# Altium schematic symbol library RF Module.SchLib: 8 symbols
Pins are listed as number, name and electrical type; pins without a type are passive.

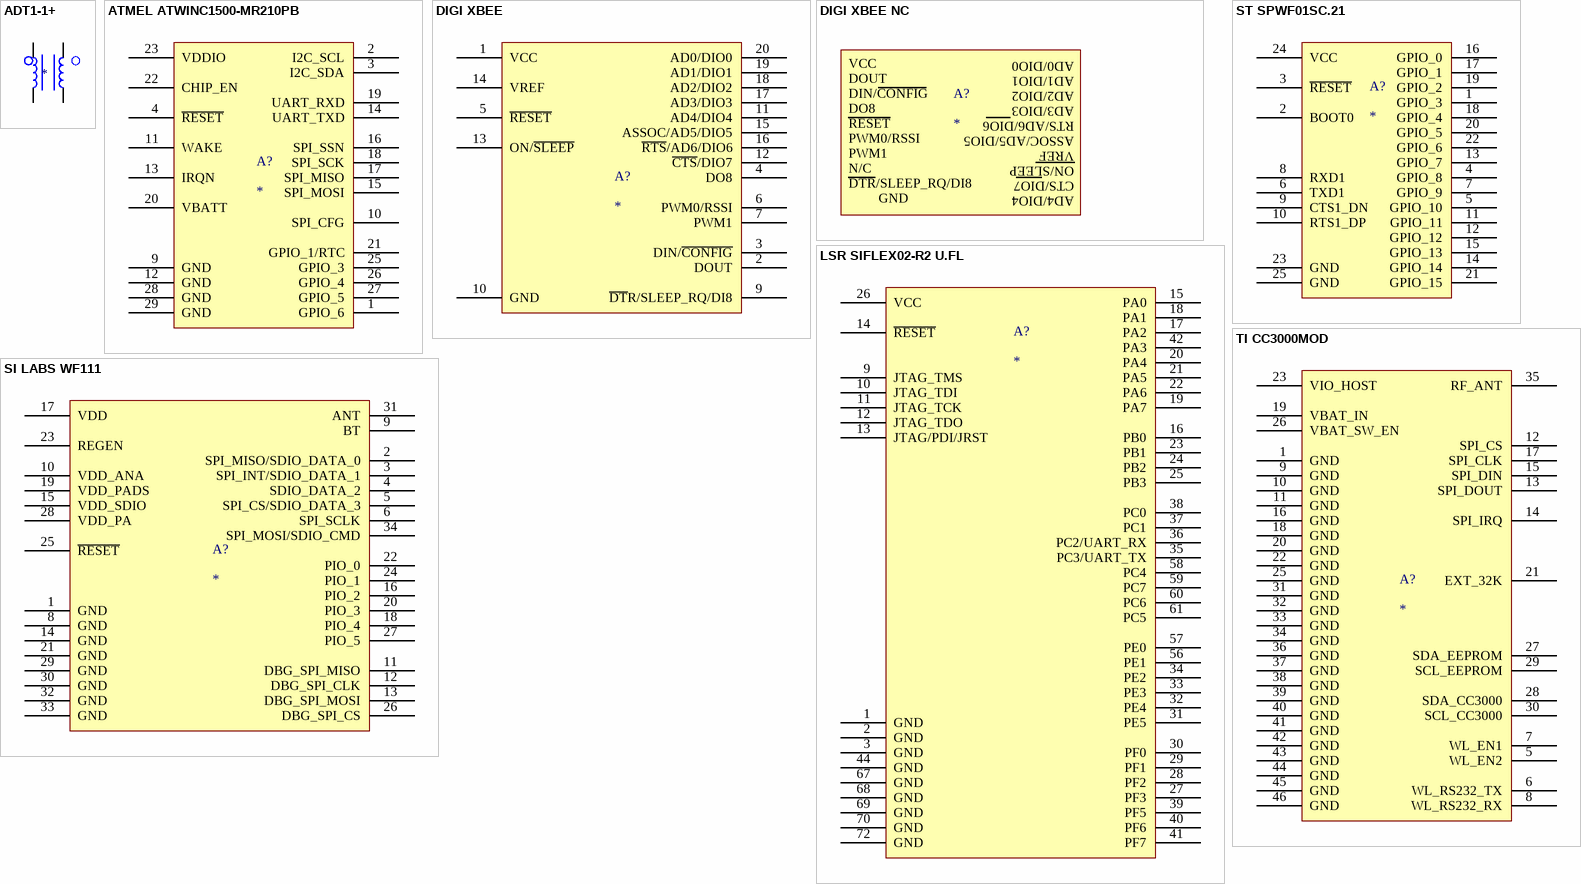
[diagram p0: symbols ADT1-1+ to TI CC3000MOD]

## ADT1-1+
designator *
RF Transformer
pins: 1, 3, 4 2, 6 1

## ATMEL ATWINC1500-MR210PB
designator A?
pins: 1 GPIO_6, 2 I2C_SCL, 3 I2C_SDA, 4 ~{RESET}, 9 GND, 10 SPI_CFG, 11 WAKE, 12 GND, 13 IRQN, 14 UART_TXD, 15 SPI_MOSI, 16 SPI_SSN, 17 SPI_MISO, 18 SPI_SCK, 19 UART_RXD, 20 VBATT, 21 GPIO_1/RTC, 22 CHIP_EN, 23 VDDIO, 25 GPIO_3, 26 GPIO_4, 27 GPIO_5, 28 GND, 29 GND

## DIGI XBEE
designator A?
pins: 1 VCC, 2 DOUT, 3 DIN/~{CONFIG}, 4 DO8, 5 ~{RESET}, 6 PWM0/RSSI, 7 PWM1, 9 ~{DT}R/SLEEP_RQ/DI8, 10 GND, 11 AD4/DIO4, 12 ~{CTS}/DIO7, 13 ON/~{SLEEP}, 14 VREF, 15 ASSOC/AD5/DIO5, 16 ~{RTS}/AD6/DIO6, 17 AD3/DIO3, 18 AD2/DIO2, 19 AD1/DIO1, 20 AD0/DIO0

## DIGI XBEE NC
designator A?
text: AD0/DIO0; VCC; AD1/DIO1; DOUT; AD2/DIO2; DIN/CONFIG; AD3/DIO3; DO8; RTS/AD6/DIO6; RESET; ASSOC/AD5/DIO5; PWM0/RSSI; VREF; PWM1; ON/SLEEP; N/C; CTS/DIO7; DTR/SLEEP_RQ/DI8; AD4/DIO4; GND

## LSR SIFLEX02-R2 U.FL
designator A?
pins: 1 GND, 2 GND, 3 GND, 9 JTAG_TMS, 10 JTAG_TDI, 11 JTAG_TCK, 12 JTAG_TDO, 13 JTAG/PDI/JRST, 14 ~{RESET}, 15 PA0, 16 PB0, 17 PA2, 18 PA1, 19 PA7, 20 PA4, 21 PA5, 22 PA6, 23 PB1, 24 PB2, 25 PB3, 26 VCC, 27 PF3, 28 PF2, 29 PF1, 30 PF0, 31 PE5, 32 PE4, 33 PE3, 34 PE2, 35 PC3/UART_TX, 36 PC2/UART_RX, 37 PC1, 38 PC0, 39 PF5, 40 PF6, 41 PF7, 42 PA3, 44 GND, 56 PE1, 57 PE0, 58 PC4, 59 PC7, 60 PC6, 61 PC5, 67 GND, 68 GND, 69 GND, 70 GND, 72 GND

## SI LABS WF111
designator A?
pins: 1 GND, 2 SPI_MISO/SDIO_DATA_0, 3 SPI_INT/SDIO_DATA_1, 4 SDIO_DATA_2, 5 SPI_CS/SDIO_DATA_3, 6 SPI_SCLK, 8 GND, 9 BT, 10 VDD_ANA, 11 DBG_SPI_MISO, 12 DBG_SPI_CLK, 13 DBG_SPI_MOSI, 14 GND, 15 VDD_SDIO, 16 PIO_2, 17 VDD, 18 PIO_4, 19 VDD_PADS, 20 PIO_3, 21 GND, 22 PIO_0, 23 REGEN, 24 PIO_1, 25 ~{RESET}, 26 DBG_SPI_CS, 27 PIO_5, 28 VDD_PA, 29 GND, 30 GND, 31 ANT, 32 GND, 33 GND, 34 SPI_MOSI/SDIO_CMD

## ST SPWF01SC.21
designator A?
pins: 1 GPIO_3, 2 BOOT0, 3 ~{RESET}, 4 GPIO_8, 5 GPIO_10, 6 TXD1, 7 GPIO_9, 8 RXD1, 9 CTS1_DN, 10 RTS1_DP, 11 GPIO_11, 12 GPIO_12, 13 GPIO_7, 14 GPIO_14, 15 GPIO_13, 16 GPIO_0, 17 GPIO_1, 18 GPIO_4, 19 GPIO_2, 20 GPIO_5, 21 GPIO_15, 22 GPIO_6, 23 GND, 24 VCC, 25 GND

## TI CC3000MOD
designator A?
pins: 1 GND, 5 WL_EN2, 6 WL_RS232_TX, 7 WL_EN1, 8 WL_RS232_RX, 9 GND, 10 GND, 11 GND, 12 SPI_CS, 13 SPI_DOUT, 14 SPI_IRQ, 15 SPI_DIN, 16 GND, 17 SPI_CLK, 18 GND, 19 VBAT_IN, 20 GND, 21 EXT_32K, 22 GND, 23 VIO_HOST, 25 GND, 26 VBAT_SW_EN, 27 SDA_EEPROM, 28 SDA_CC3000, 29 SCL_EEPROM, 30 SCL_CC3000, 31 GND, 32 GND, 33 GND, 34 GND, 35 RF_ANT, 36 GND, 37 GND, 38 GND, 39 GND, 40 GND, 41 GND, 42 GND, 43 GND, 44 GND, 45 GND, 46 GND, GND 40 hidden to Passive